# Altium schematic symbol library NinjaSCH.SchLib: 28 symbols
Pins are listed as number, name and electrical type; pins without a type are passive.

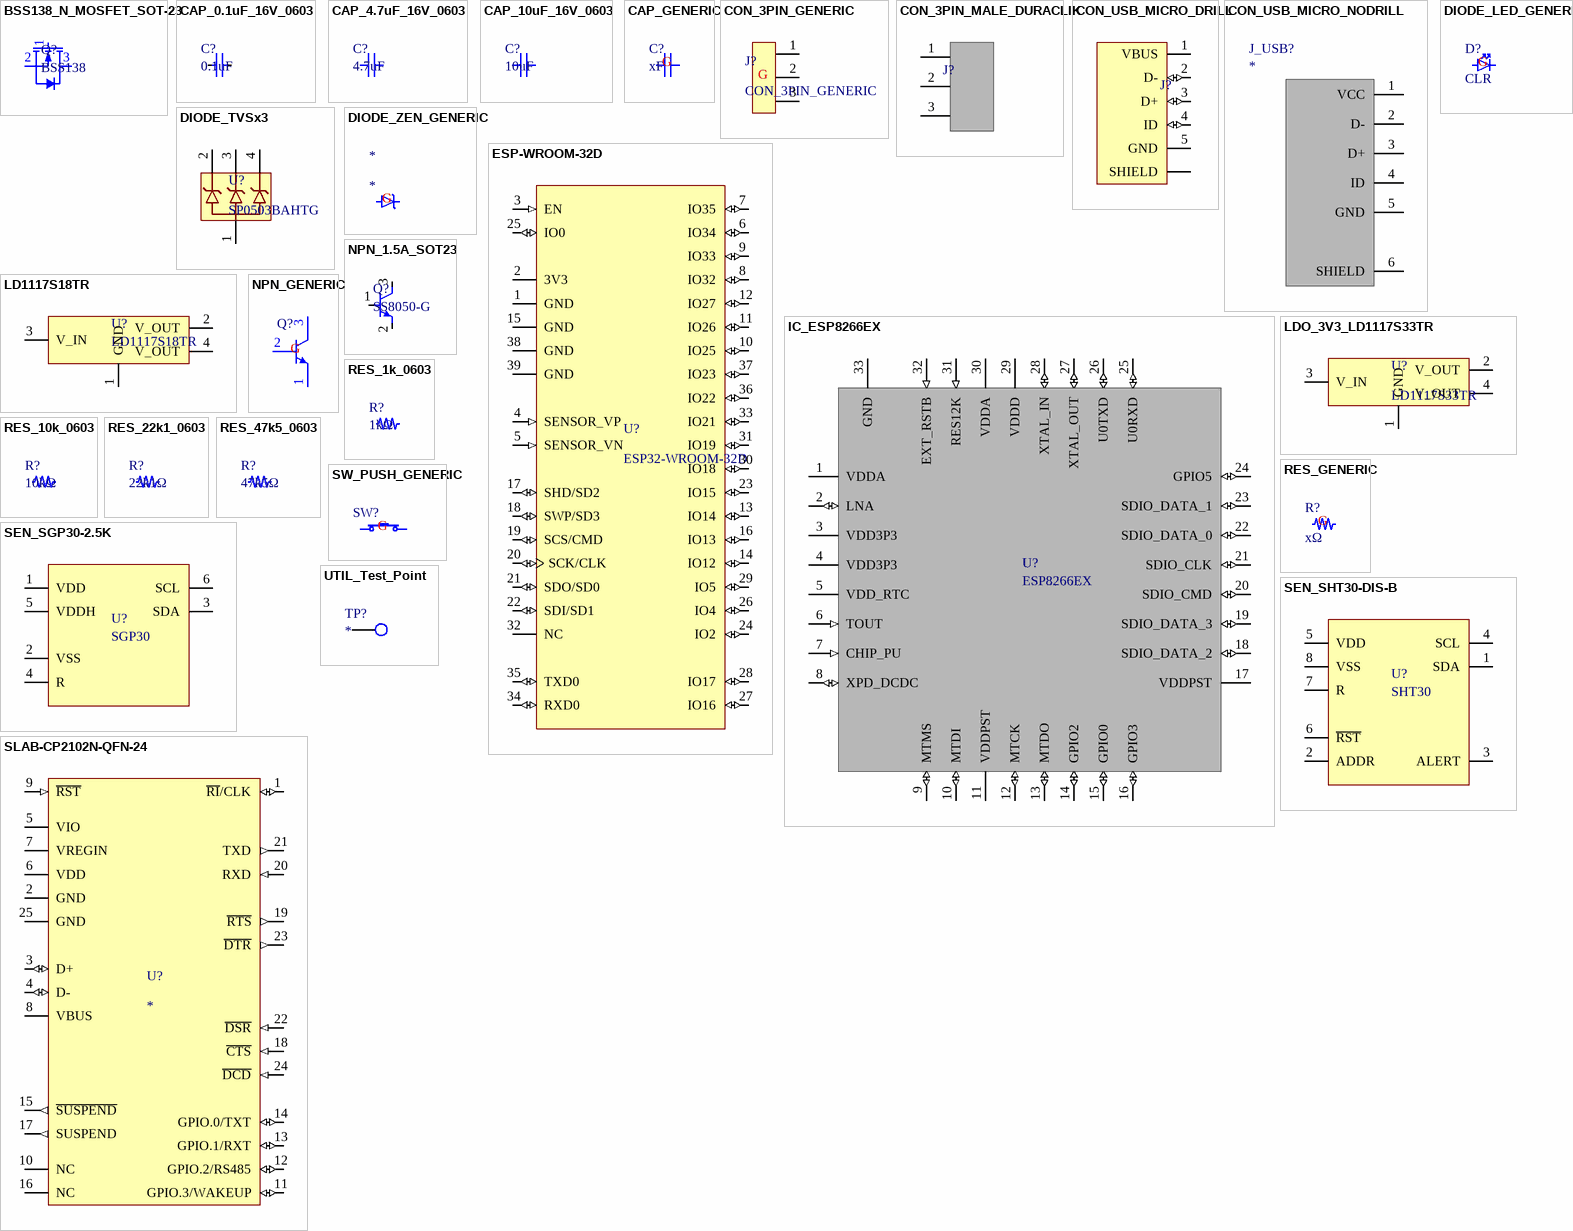
[diagram p0: symbols BSS138_N_MOSFET_SOT-23 to UTIL_Test_Point]

## BSS138_N_MOSFET_SOT-23
designator Q?, comment BSS138
MOSFET N-CH 50V 220MA SOT-23; Manufacturer: ON Semiconductor / Fairchild; Rds On Max: 3.5R; Input Capacitance: 27pF; Nominal Vgs: 1.3V; Number of Elements: 1; Max Power Dissipation: 360mW; Rise Time: 9ns; Turn-Off Delay Time: 20ns; Turn-On Delay Time: 2.5ns; Element Configuration: Single; Gate to Source Voltage (Vgs): 20V; On-State Resistance: 6R; Supplier 1: Digi-Key; Manufacturer Part Number: BSS138; Stock 1: 1411776; Pricing 1: 1=0.32, 10=0.292, 100=0.1633, 500=0.0875, 1000=0.0595 (USD); Mount: Surface Mount; Case/Package: SOT-23; Number of Pins: 3; Weight: 0.03g; Contact Plating: Matte,Tin; Min Operating Temperature: -55°C; Max Operating Temperature: 150°C; Packaging: Tape and Reel; Package Quantity: 1; Dual Supply Voltage: 50V; Drain to Source Voltage (Vdss): 50V; Continuous Drain Current (ID): 220mA; Drain to Source Breakdown Voltage: 50V; Fall Time: 9ns; Drain to Source Resistance: 3.5R; Power Dissipation: 360mW; Threshold Voltage: 1.3V; Termination: SMD/SMT; Voltage Rating (DC): 50V; Current Rating: 220mA; Length: 2.92mm; Height: 0.93mm; Width: 1.3mm; Radiation Hardening: No; REACH SVHC: No SVHC; Lead Free: Lead Free; Supplier Part Number 1: BSS138CT-ND
footprint SOT-23 (SOT23, 3-Leads, Body 3.12x1.5mm, Pitch 0.95mm)
pins: 1 G, 2 S, 3 D

## CAP_0.1uF_16V_0603
designator C?, comment 0.1uF
CAP CER 0.1UF 16V X7R 0603; Manufacturer: Murata; Manufacturer Part Number: GCM188R71C104KA37D; Tolerance: 10%; Capacitance: 100nF; Supplier 1: Digi-Key; Stock 1: 40000; Pricing 1: 1=0.1, 10=0.076, 100=0.0341, 500=0.0243, 1000=0.0191 (USD); Mount: Surface Mount; Case/Package: 0603; Case Code (Metric): 1608; Case Code (Imperial): 0603; Min Operating Temperature: -55°C; Max Operating Temperature: 125°C; Packaging: Tape and Reel; Package Quantity: 4000; Voltage Rating: 16V; Voltage Rating (DC): 16V; Dielectric: X7R; Termination: SMD/SMT; Voltage: 16V; Length: 1.6mm; Height: 0.8mm; Width: 0.031inch; Thickness: 0.035inch; Depth: 0.8mm; Ratings: AEC-Q200; Radiation Hardening: No; REACH SVHC: No SVHC; Lead Free: Lead Free; Supplier Part Number 1: 490-4774-1-ND
footprint CAP_0603 (Ceramic)
pins: 1, 2

## CAP_4.7uF_16V_0603
designator C?, comment 4.7uF
Cap Ceramic 4.7uF 16V X5R 10% SMD 0603 85C Paper T/R; Manufacturer: Samsung; Manufacturer Part Number: CL10A475KO8NNNC; Supplier 1: Digi-Key; Stock 1: 40000; Pricing 1: 1=0.3, 10=0.203, 100=0.1148, 500=0.081, 1000=0.0709 (USD); Mount: Surface Mount; Case/Package: 0603; Case Code (Metric): 1608; Case Code (Imperial): 0603; Material: Ceramic; Contact Plating: Tin; Min Operating Temperature: -55°C; Max Operating Temperature: 85°C; Tolerance: 10%; Packaging: Tape and Reel; Package Quantity: 1; Capacitance: 4.7uF; Voltage Rating: 16V; Dielectric: X5R; Voltage: 16V; Length: 1.6mm; Height: 0.8mm; Width: 0.031inch; Thickness: 0.035inch; Depth: 0.8mm; Radiation Hardening: No; Supplier Part Number 1: 1276-1784-1-ND
footprint CAP_0603 (Ceramic)
pins: 1, 2

## CAP_10uF_16V_0603
designator C?, comment 10uF
10µF ±20% 16V X5R Ceramic Capacitor -55°C ~ 85°C Surface Mount, MLCC 0603 (1608 Metric) 0.063" L x 0.031" W (1.60mm x 0.80mm); Manufacturer: Murata; Manufacturer Part Number: GRM188R61C106MA73D; Supplier 1: Digi-Key; Stock 1: 0; Pricing 1: 1=0.45, 10=0.311, 100=0.1867, 500=0.14, 1000=0.1183 (USD); Mount: Surface Mount; Case/Package: 0603; Case Code (Metric): 1608; Case Code (Imperial): 0603; Min Operating Temperature: -55°C; Max Operating Temperature: 85°C; Package Quantity: 4000; Packaging: Tape and Reel; Capacitance: 10uF; Voltage Rating: 16V; Tolerance: 20%; Dielectric: X5R; Voltage: 16V; Voltage Rating (DC): 16V; Length: 1.6mm; Height: 0.8mm; Width: 0.031inch; Thickness: 0.031inch; Depth: 0.8mm; REACH SVHC: No SVHC; Lead Free: Lead Free
footprint CAP_0603 (Ceramic)
pins: 1, 2

## CAP_GENERIC
designator C?, comment xF
footprint GENERIC_0603_CERAMIC_CAP
pins: 1, 2
text: G

## CON_3PIN_GENERIC
designator J?
pins: 1, 2, 3
text: G

## CON_3PIN_MALE_DURACLIK
designator J?, comment 5023520301  (value not drawn)
Molex DuraClik 3POS SMD Black; Number of Positions: 3; Connector Type: Male Pin; Pitch: 0.079inch; Supplier 1: Digi-Key; Manufacturer: Molex; Manufacturer Part Number: 5023520301; Stock 1: 0; Mount: Surface Mount; Number of Pins: 3; Colour: Black; Contact Plating: Tin; Packaging: Tape and Reel; Number of Rows: 1; Termination: Solder; Fastening Type: Latch; Number of Circuits: 3; Orientation: Right Angle; Supplier Part Number 1: 5023520301-ND
footprint 3pin duraclick (3pin molex duraclick system, black)
pins: 1 (power), 2 (power), 3 (power)

## CON_USB_MICRO_DRILL
designator J?, comment UJ2-MIBH2-4-SMT-TR  (value not drawn)
UJ2-MIBH2-4-SMT-TR MICRO B USB JACK; Manufacturer: CUI; Supplier 1: Digi-Key; Manufacturer Part Number: UJ2-MIBH2-4-SMT-TR; Stock 1: 5971; Pricing 1: 1=1.02, 10=0.898, 25=0.8448, 50=0.8096, 100=0.7744, 250=0.704, 500=0.6336 (USD); Number of Pins: 5; Supplier Part Number 1: 102-4007-1-ND
footprint CON_USB_MICRO_DRILL (UJ2-MIBH2-4-SMT)
pins: 1 VBUS (power), 2 D- (io), 3 D+ (io), 4 ID (io), 5 GND (power), SH SHIELD

## CON_USB_MICRO_NODRILL
designator J_USB?
Conn USB 2.0 Type B RCP 5 POS 0.65mm Solder RA SMD 5 Terminal 1 Port T/R; Manufacturer: TE Connectivity; Manufacturer Part Number: 2174507-2; Plating: Nickel,Tin; Connector Type: Receptacle; Number of Contacts: 5; Number of Ports: 1; Contact Current Rating: 1.8A; Circuit Application: Power; Connector System: Cable-to-Board; Pitch: 0.025inch; Supplier 1: Digi-Key; Stock 1: 879; Pricing 1: 1=2.83, 10=2.712, 25=2.4864, 50=2.3732, 100=2.2602, 250=1.97772, 500=1.9212 (USD); Mount: Surface Mount,Horizontal; Number of Terminals: 5; Housing Colour: Black; Contact Plating: Gold; Contact Material: Copper Alloy; Housing Material: Thermoplastic; Min Operating Temperature: -30°C; Max Operating Temperature: 85°C; Package Quantity: 1000; Packaging: Tape and Reel; Gender: Receptacle; Termination: SMD/SMT; Orientation: Right Angle; Number of Positions: 5; Length: 7.8mm; ELV: Compliant; ComponentLink1URL: https://datasheet.ciiva.com/29660/jpn-cd-2174507-a-29660241.pdf; ComponentLink1Description: https://datasheet.ciiva.com/29660/jpn-cd-2174507-a-29660241.pdf
footprint 2174507-2
pins: 1 VCC, 2 D-, 3 D+, 4 ID, 5 GND, 6 SHIELD

## DIODE_LED_GENERIC
designator D?, comment CLR
pins: 1, 2
text: G

## DIODE_TVSx3
designator U?, comment SP0503BAHTG
SP0503BAHTG TVS DIODE 5.5VWM 8.5VC SOT143; Manufacturer: Littelfuse; Operating Supply Voltage: 5.5V; Element Configuration: Common Anode; Direction: Unidirectional; Capacitance: 30pF; Number of Channels: 3; Clamping Voltage: 8.5V; Power Line Protection: No; Polarity: Unidirectional,Bidirectional; Max Power Dissipation: 225mW; ESD Protection: Yes; Max Reverse Leakage Current: 100nA; Voltage Rating (DC): 5V; Diode Type: Avalanche; Supplier 1: Digi-Key; Manufacturer Part Number: SP0503BAHTG; Stock 1: 123231; Pricing 1: 1=0.92, 10=0.806, 25=0.714, 100=0.622, 250=0.5414, 500=0.4607, 1000=0.3686 (USD); Mount: Surface Mount; Case/Package: SOT-143; Number of Pins: 4; Min Operating Temperature: -40°C; Max Operating Temperature: 85°C; Packaging: Tape and Reel; Number of Unidirectional Channels: 3; Reverse Standoff Voltage: 5.5V; Breakdown Voltage: 5.5V; Termination: SMD/SMT; Working Voltage: 5.5V; Peak Pulse Power: 225mW; Leakage Current: 100nA; Number of Elements: 3; Power Dissipation: 225mW; Composition: Zener; Length: 3.04mm; Height: 1.05mm; Width: 1.4mm; Depth: 1.4mm; Radiation Hardening: No; REACH SVHC: No SVHC; Lead Free: Lead Free; ComponentLink1URL: https://datasheet.ciiva.com/15143/getdatasheetpartid-116020-15143550.pdf; ComponentLink1Description: https://datasheet.ciiva.com/15143/getdatasheetpartid-116020-15143550.pdf; ComponentLink2URL: https://datasheet.ciiva.com/332/sp05xxba-332550.pdf; ComponentLink2Description: https://datasheet.ciiva.com/332/sp05xxba-332550.pdf; ComponentLink3URL: https://datasheet.ciiva.com/8062/littefuse-spa-sp050x-8062422.pdf; ComponentLink3Description: https://datasheet.ciiva.com/8062/littefuse-spa-sp050x-8062422.pdf; ComponentLink4URL: https://datasheet.ciiva.com/22697/1911798-22697942.pdf; ComponentLink4Description: https://datasheet.ciiva.com/22697/1911798-22697942.pdf; ComponentLink5URL: https://datasheet.ciiva.com/332/sp05xxba-332551.pdf; ComponentLink5Description: https://datasheet.ciiva.com/332/sp05xxba-332551.pdf; ComponentLink6URL: https://datasheet.ciiva.com/16449/sp05xxba-16449463.pdf; ComponentLink6Description: https://datasheet.ciiva.com/16449/sp05xxba-16449463.pdf; ComponentLink7URL: https://datasheet.ciiva.com/332/sp05xxba-332552.pdf; ComponentLink7Description: https://datasheet.ciiva.com/332/sp05xxba-332552.pdf; ComponentLink8URL: https://datasheet.ciiva.com/4509/sp05x-leadfree-4509162.pdf; ComponentLink8Description: https://datasheet.ciiva.com/4509/sp05x-leadfree-4509162.pdf; ComponentLink9URL: https://datasheet.ciiva.com/7650/526672-7650894.pdf; ComponentLink9Description: https://datasheet.ciiva.com/7650/526672-7650894.pdf; Supplier Part Number 1: F2715CT-ND
footprint SOT-143
pins: 1, 2, 3, 4

## DIODE_ZEN_GENERIC
designator *
pins: 1, 1
text: G

## ESP-WROOM-32D
designator U?, comment ESP32-WROOM-32D
Manufacturer: Espressif Systems; Supplier 1: Digi-Key; Manufacturer Part Number: ESP32-WROOM-32D; Stock 1: 0; Supplier Part Number 1: 1904-1023-1-ND
footprint ESP_WROOM_32D (ESP32 SoM)
pins: 1 GND (power) "Ground", 2 3V3 (power) "Power supply.", 3 EN (in) "Chip-enable signal. Active high.", 4 SENSOR_VP (in) "GPIO36, SENSOR_VP, ADC_H, ADC1_CH0, RTC_GPIO0", 5 SENSOR_VN (in) "GPIO39, SENSOR_VN, ADC1_CH3, ADC_H, RTC_GPIO3", 6 IO34 (io) "GPIO34, ADC1_CH6, RTC_GPIO4", 7 IO35 (io) "GPIO35, ADC1_CH7, RTC_GPIO5", 8 IO32 (io) "GPIO32, XTAL_32K_P (32.768 kHz crystal oscillator input), ADC1_CH4, TOUCH9, RTC_GPIO9", 9 IO33 (io) "GPIO33, XTAL_32K_N (32.768 kHz crystal oscillator output), ADC1_CH5, TOUCH8, RTC_GPIO8", 10 IO25 (io) "GPIO25, DAC_1, ADC2_CH8, RTC_GPIO6, EMAC_RXD0", 11 IO26 (io) "GPIO26, DAC_2, ADC2_CH9, RTC_GPIO7, EMAC_RXD1", 12 IO27 (io) "GPIO27, ADC2_CH7, TOUCH7, RTC_GPIO17, EMAC_RX_DV", 13 IO14 (io) "GPIO14, ADC2_CH6, TOUCH6, RTC_GPIO16, MTMS, HSPICLK, HS2_CLK, SD_CLK, EMAC_TXD2", 14 IO12 (io) "GPIO12, ADC2_CH5, TOUCH5, RTC_GPIO15, MTDI, HSPIQ, HS2_DATA2, SD_DATA2, EMAC_TXD3", 15 GND (power) "Ground", 16 IO13 (io) "GPIO13, ADC2_CH4, TOUCH4, RTC_GPIO14, MTCK, HSPID, HS2_DATA3, SD_DATA3, EMAC_RX_ER", 17 SHD/SD2 (io) "GPIO9, SD_DATA2, SPIHD, HS1_DATA2, U1RXD", 18 SWP/SD3 (io) "GPIO10, SD_DATA3, SPIWP, HS1_DATA3, U1TXD", 19 SCS/CMD (io) "GPIO11, SD_CMD, SPICS0, HS1_CMD, U1RTS", 20 SCK/CLK (io) "GPIO6, SD_CLK, SPICLK, HS1_CLK, U1CTS", 21 SDO/SD0 (io) "GPIO7, SD_DATA0, SPIQ, HS1_DATA0, U2RTS", 22 SDI/SD1 (io) "GPIO8, SD_DATA1, SPID, HS1_DATA1, U2CTS", 23 IO15 (io) "GPIO15, ADC2_CH3, TOUCH3, MTDO, HSPICS0, RTC_GPIO13, HS2_CMD, SD_CMD, EMAC_RXD3", 24 IO2 (io) "GPIO2, ADC2_CH2, TOUCH2, RTC_GPIO12, HSPIWP, HS2_DATA0, SD_DATA0", 25 IO0 (io) "GPIO0, ADC2_CH1, TOUCH1, RTC_GPIO11, CLK_OUT1, EMAC_TX_CLK", 26 IO4 (io) "GPIO4, ADC2_CH0, TOUCH0, RTC_GPIO10, HSPIHD, HS2_DATA1, SD_DATA1, EMAC_TX_ER", 27 IO16 (io) "GPIO16, HS1_DATA4, U2RXD, EMAC_CLK_OUT", 28 IO17 (io) "GPIO17, HS1_DATA5, U2TXD, EMAC_CLK_OUT_180", 29 IO5 (io) "GPIO5, VSPICS0, HS1_DATA6, EMAC_RX_CLK", 30 IO18 (io) "GPIO18, VSPICLK, HS1_DATA7", 31 IO19 (io) "GPIO19, VSPIQ, U0CTS, EMAC_TXD0", 32 NC "Not connected", 33 IO21 (io) "GPIO21, VSPIHD, EMAC_TX_EN", 34 RXD0 (io) "GPIO3, U0RXD, CLK_OUT2", 35 TXD0 (io) "GPIO1, U0TXD, CLK_OUT3, EMAC_RXD2", 36 IO22 (io) "GPIO22, VSPIWP, U0RTS, EMAC_TXD1", 37 IO23 (io) "GPIO23, VSPID, HS1_STROBE", 38 GND (power) "Ground", 39 GND (power)

## IC_ESP8266EX
designator U?, comment ESP8266EX
ESP8266EX, QFN32-PIN, 5x5; Manufacturer: Espressif Systems; RF Family/Standard: WiFi; Protocol: 802.11b/g/n; Frequency: 2.4GHz; Data Rate (Max): 54Mbps; Power - Output: 20dBm; Sensitivity: -91dBm; Serial Interfaces: I²C, I²S, SPI, UART; Voltage - Supply: 2.5 V ~ 3.6 V; Current - Receiving: 50mA ~ 56mA; Current - Transmitting: 120mA ~ 170mA; Supplier 1: Digi-Key; RoHS: RoHS Compliant; Category: RF/IF and RFID; Stock 1: 3363; Pricing 1: 1=2.5, 10=2.231, 25=2.008, 100=1.8296, 250=1.65116, 500=1.48156 (EUR); Packaging: Cut Tape (CT); Part Status: Active; Package / Case: 32-VFQFN Exposed Pad; ComponentLink1URL: https://espressif.com/sites/default/files/documentation/0a-esp8266ex_datasheet_en.pdf; ComponentLink1Description: https://espressif.com/sites/default/files/documentation/0a-esp8266ex_datasheet_en.pdf; Supplier Part Number 1: 1904-1001-1-ND; Manufacturer Part Number: ESP8266EX
footprint QFN32 (QFN, 32-Leads, Body 5,00x5,00mm, Pitch 0,50mm, Thermal Pad 3,70x3,70mm, IPC Medium Density)
pins: 1 VDDA (power) "Analog Power 2.5V ~ 3.6V", 2 LNA (io) "RF antenna interface", 3 VDD3P3 (power) "Amplifier Power 2.5V ~ 3.6V", 4 VDD3P3 (power) "Amplifier Power 2.5V ~ 3.6V", 5 VDD_RTC (power) "NC (1.1V)", 6 TOUT (in) "ADC pin", 7 CHIP_PU (in) "Chip enable. High=ON, LOW=OFF", 8 XPD_DCDC (io) "GPIO16; Deep-sleep wakeup (need to be connected to EXT_RSTB)", 9 MTMS (io) "GPIO14; HSPI_CLK", 10 MTDI (io) "GPIO12; HSPI_MISO", 11 VDDPST (power) "Digital/IO Power Supply (1.8V ~ 3.6V)", 12 MTCK (io) "GPIO13; HSPI_MOSI; UART0_CTS", 13 MTDO (io) "GPIO15; HSPI_CS; UART0_RTS", 14 GPIO2 (io) "GPIO2; UART Tx during flash programming", 15 GPIO0 (io) "GPIO0; SPI_CS2", 16 GPIO3 (io) "GPIO4", 17 VDDPST (power) "Digital/IO Power Supply (1.8V ~ 3.6V)", 18 SDIO_DATA_2 (io) "GPIO9; SPIHD; HSPIHD; Connect to SD_D2 (Series R: 200Ω)", 19 SDIO_DATA_3 (io) "GPIO10; SPIWP; HSPIWP; Connect to SD_D3 (Series R: 200Ω)", 20 SDIO_CMD (io) "GPIO11; SPI_CS0; Connect to SD_CMD (Series R: 200Ω)", 21 SDIO_CLK (io) "GPIO6; SPI_CLK; Connect to SD_CLK (Series R: 200Ω)", 22 SDIO_DATA_0 (io) "GPIO7; SPI_MISO; Connect to SD_D0 (Series R: 200Ω)", 23 SDIO_DATA_1 (io) "GPIO8; SPI_MOSI; Connect to SD_D1 (Series R: 200Ω)", 24 GPIO5 (io), 25 U0RXD (io) "GPIO3; UART Rx during flash programming", 26 U0TXD (io) "GPIO1; SPI_CS1; UART Tx during flash programming", 27 XTAL_OUT (io) "Connect to crystal oscillator output, can be used to provide BT clock input", 28 XTAL_IN (io) "Connect to crystal oscillator input", 29 VDDD (power) "Analog Power 2.5V ~3.6V", 30 VDDA (power) "Analog Power 2.5V ~3.6V", 31 RES12K (in) "SAerial connection with a 12kΩ resistor and connect to the ground", 32 EXT_RSTB (in) "External reset signal, active low", 33 GND (power) "Ground"

## LD1117S18TR
designator U?
LDO_1V8_LD1117S18TR_SOT-223; Manufacturer: STMicroelectronics; Max Power Dissipation: 12W; Number of Outputs: 1; Max Input Voltage: 15V; Max Output Current: 1.3A; Output Voltage: 1.8V; Output Current: 950mA; Dropout Voltage: 1.1V; Input Bias Current: 5mA; Quiescent Current: 10mA; Polarity: Positive; Accuracy: 1%; Output Type: Fixed; Supplier 1: Digi-Key; Manufacturer Part Number: LD1117S18TR; Stock 1: 6805; Pricing 1: 1=0.6, 10=0.51, 100=0.3807, 500=0.2991, 1000=0.2311 (USD); Mount: Surface Mount; Case/Package: SOT-223; Number of Pins: 4; Min Operating Temperature: 0°C; Max Operating Temperature: 125°C; Packaging: Tape and Reel; Package Quantity: 1; Number of Regulators: 1; Power Dissipation: 12W; Min Output Voltage: 1.8V; Nominal Output Voltage: 1.8V; Output Voltage Accuracy: 1%; Length: 6.5mm; Height: 1.8mm; Width: 3.5mm; Radiation Hardening: No; REACH SVHC: No SVHC; Lead Free: Lead Free; Supplier Part Number 1: 497-7308-1-ND
footprint SOT-223
pins: 1 GND (power), 2 V_OUT (power), 3 V_IN (power), 4 V_OUT (power)

## LDO_3V3_LD1117S33TR
designator U?, comment LD1117S33TR
STMICROELECTRONICS         LD1117S33TR            Fixed LDO Voltage Regulator, 4.75V to 15V, 1.1V Dropout, 3.3Vout, 800mAout, SOT-223-3; Number of Outputs: 1; Max Output Current: 1.3A; Output Voltage: 3.3V; Max Power Dissipation: 12W; Output Current: 800mA; Input Bias Current: 5mA; Quiescent Current: 10mA; Polarity: Positive; Accuracy: 1%; Supplier 1: Digi-Key; Manufacturer: STMicroelectronics; Manufacturer Part Number: LD1117S33TR; Stock 1: 10; Pricing 1: 1=0.42, 10=0.361, 100=0.2697, 500=0.2119, 1000=0.1637 (USD); Mount: Surface Mount; Case/Package: SOT-223; Number of Pins: 4; Weight: 0.01lb; Contact Plating: Tin,Matte; Min Operating Temperature: 0°C; Max Operating Temperature: 125°C; Packaging: Tape and Reel; Dropout Voltage: 1.1V; Max Input Voltage: 15V; Min Input Voltage: 4.75V; Max Supply Voltage: 15V; Min Supply Voltage: 4.75V; Package Quantity: 1; Nominal Output Voltage: 3.3V; Number of Regulators: 1; Power Dissipation: 12W; Min Output Voltage: 3.3V; Max Output Voltage: 3.3V; Termination: SMD/SMT; Voltage: 3.3V; Output Voltage Accuracy: 1%; Output Type: Fixed; Length: 6.5mm; Height: 1.8mm; Width: 3.5mm; Radiation Hardening: No; REACH SVHC: No SVHC; Lead Free: Lead Free; ComponentLink1URL: https://datasheet.ciiva.com/19478/1390240-19478097.pdf; ComponentLink1Description: https://datasheet.ciiva.com/19478/1390240-19478097.pdf; ComponentLink2URL: https://datasheet.ciiva.com/1511/1776449-1511573.pdf; ComponentLink2Description: https://datasheet.ciiva.com/1511/1776449-1511573.pdf; ComponentLink3URL: https://datasheet.ciiva.com/2041/cd00000544-2041941.pdf; ComponentLink3Description: https://datasheet.ciiva.com/2041/cd00000544-2041941.pdf; ComponentLink4URL: https://datasheet.ciiva.com/2041/cd00000544-2041942.pdf; ComponentLink4Description: https://datasheet.ciiva.com/2041/cd00000544-2041942.pdf; ComponentLink5URL: https://datasheet.ciiva.com/2041/cd00000544-2041943.pdf; ComponentLink5Description: https://datasheet.ciiva.com/2041/cd00000544-2041943.pdf; ComponentLink6URL: https://datasheet.ciiva.com/16396/cd00000544-16396459.pdf; ComponentLink6Description: https://datasheet.ciiva.com/16396/cd00000544-16396459.pdf; ComponentLink7URL: https://datasheet.ciiva.com/7992/1776449-7992621.pdf; ComponentLink7Description: https://datasheet.ciiva.com/7992/1776449-7992621.pdf; ComponentLink8URL: https://datasheet.ciiva.com/28652/1776449-28652462.pdf; ComponentLink8Description: https://datasheet.ciiva.com/28652/1776449-28652462.pdf; Supplier Part Number 1: 497-1242-1-ND
footprint SOT-223
pins: 1 GND (power), 2 V_OUT (power), 3 V_IN (power), 4 V_OUT (power)

## NPN_1.5A_SOT23
designator Q?, comment SS8050-G
S8050-G NPN1.5A 40V SOT-23 R; Manufacturer: Comchip; Max Collector Current: 1.5A; Collector Emitter Voltage (VCEO): 400mV; Max Power Dissipation: 300mW; Transition Frequency: 100MHz; Collector Emitter Breakdown Voltage: 25V; Supplier 1: Digi-Key; Manufacturer Part Number: SS8050-G; Stock 1: 0; Pricing 1: 1=0.24, 10=0.219, 25=0.1576, 100=0.1227, 250=0.0771, 500=0.0657, 1000=0.0447 (USD); Mount: Surface Mount; Case/Package: TO-236-3; Packaging: Tape and Reel; Max Breakdown Voltage: 25V; Supplier Part Number 1: 641-1790-1-ND
footprint SOT-23
pins: 1 B, 2 E, 3 C

## NPN_GENERIC
designator Q?
pins: 1 E, 2 B, 3 C
text: G

## RES_1k_0603
designator R?, comment 1kΩ
RMCF Series 1 kOhms ±5% 0603 ±200 ppm/°C SMT Thick Film Chip Resistor; Manufacturer: Stackpole Electronics; Manufacturer Part Number: RMCF0603JJ1K00; Resistance: 1kR; Power Rating: 100mW; Supplier 1: Digi-Key; Stock 1: 6000; Pricing 1: 1=0.1, 10=0.016, 100=0.0064, 1000=0.0029, 2500=0.0025, 5000=0.0021 (USD); Mount: Surface Mount; Case/Package: 0603; Case Code (Metric): 1608; Case Code (Imperial): 0603; Min Operating Temperature: -55°C; Max Operating Temperature: 155°C; Tolerance: 5%; Packaging: Tape and Reel; Composition: Thick Film; Number of Terminations: 2; Max Power Dissipation: 100mW; Temperature Coefficient: 200ppm/°C; Features: Automotive AEC-Q200; Length: 0.061inch; Height: 0.022inch; Width: 0.031inch; Lead Free: Lead Free; Supplier Part Number 1: RMCF0603JJ1K00CT-ND
footprint RES_0603_HD (Chip Resistor, Body 1.6x0.8mm, IPC High Density)
pins: 1, 2

## RES_10k_0603
designator R?, comment 10kΩ
Res Thin Film 0603 10K Ohm 1% 1/8W 100ppm/C Molded SMD SMD Paper T/R; Manufacturer: Stackpole Electronics; Manufacturer Part Number: RNCP0603FTD10K0; Resistance: 10kR; Max Power Dissipation: 125mW; Temperature Coefficient: 100ppm/°C; Supplier 1: Digi-Key; Stock 1: 72973; Pricing 1: 1=0.1, 10=0.067, 100=0.0273, 1000=0.0122, 2500=0.0106 (USD); Mount: Surface Mount; Case/Package: 0603; Case Code (Metric): 1608; Case Code (Imperial): 0603; Contact Plating: Matte,Tin; Min Operating Temperature: -55°C; Max Operating Temperature: 155°C; Packaging: Tape and Reel; Tolerance: 1%; Composition: Thin Film; Number of Terminations: 2; Features: Anti-Sulfur,Moisture Resistant; Length: 0.059inch; Height: 0.02inch; Width: 0.031inch; Radiation Hardening: No; Lead Free: Lead Free; Supplier Part Number 1: RNCP0603FTD10K0CT-ND
footprint RES_0603_HD (Chip Resistor, Body 1.6x0.8mm, IPC High Density)
pins: 1, 2

## RES_22k1_0603
designator R?, comment 22k1Ω
RES SMD 22.1K OHM 1% 1/8W 0603; Manufacturer: Stackpole Electronics; Manufacturer Part Number: RNCP0603FTD22K1; Resistance: 22.1kR; Max Power Dissipation: 125mW; Temperature Coefficient: 100ppm/°C; Supplier 1: Digi-Key; Stock 1: 1191; Pricing 1: 1=0.1, 10=0.067, 100=0.0273, 1000=0.0122, 2500=0.0106 (USD); Mount: Surface Mount; Case/Package: 0603; Case Code (Metric): 1608; Case Code (Imperial): 0603; Min Operating Temperature: -55°C; Max Operating Temperature: 155°C; Tolerance: 1%; Packaging: Tape and Reel; Composition: Thin Film; Number of Terminations: 2; Features: Anti-Sulfur,Moisture Resistant; Length: 0.059inch; Height: 0.02inch; Width: 0.031inch; Supplier Part Number 1: RNCP0603FTD22K1CT-ND
footprint RES_0603_HD (Chip Resistor, Body 1.6x0.8mm, IPC High Density)
pins: 1, 2

## RES_47k5_0603
designator R?, comment 47k5Ω
Res Thick Film 0603 47.5K Ohm 1% 1/10W 100ppm/C Molded SMD SMD Paper T/R; Manufacturer: Stackpole Electronics; Manufacturer Part Number: RMCF0603FG47K5; Resistance: 47.5kR; Max Power Dissipation: 100mW; Temperature Coefficient: 100ppm/°C; Supplier 1: Digi-Key; Stock 1: 5202; Pricing 1: 1=0.1, 10=0.018, 100=0.0071, 1000=0.0032, 2500=0.0028, 5000=0.0023 (USD); Mount: Surface Mount; Case/Package: 0603; Case Code (Metric): 1608; Case Code (Imperial): 0603; Contact Plating: Matte,Tin; Min Operating Temperature: -55°C; Max Operating Temperature: 155°C; Packaging: Tape and Reel; Tolerance: 1%; Package Quantity: 1; Composition: Thick Film; Number of Terminations: 2; Features: Automotive AEC-Q200; Length: 0.061inch; Height: 0.022inch; Width: 0.031inch; Radiation Hardening: No; Supplier Part Number 1: RMCF0603FG47K5CT-ND
footprint RES_0603_HD (Chip Resistor, Body 1.6x0.8mm, IPC High Density)
pins: 1, 2

## RES_GENERIC
designator R?, comment xΩ
pins: 1, 2
text: G

## SEN_SGP30-2.5K
designator U?, comment SGP30
Air quality sensor; Manufacturer: Sensirion; Manufacturer Part Number: 1-101646-01; Supplier 1: Digi-Key; Stock 1: 2448; Pricing 1: 1=13.7, 5=12.016, 10=10.814, 25=9.6128, 50=8.8916, 100=7.6901, 500=7.2095, 1000=6.7288 (USD); Supplier Part Number 1: 1649-1084-1-ND
pins: 1 VDD "1.62-1.98V, 1.8V nominal", 2 VSS "Ground", 3 SDA "Serial data", 4 R "No function. Connect to ground.", 5 VDDH "Supply voltage hot plate. 1.62-1.98V, 1.8V nominal", 6 SCL "Supply voltage hot plate. 1.62-1.98V, 1.8V nominal"

## SEN_SHT30-DIS-B
designator U?, comment SHT30
Manufacturer: Sensirion; Manufacturer Part Number: SHT30-DIS-B; Response Time: 8s; Min Supply Voltage: 2.4V; Max Supply Voltage: 5.5V; Capacitance: 100nF; Accuracy: 3%; Sensor Type: Temperature; Output Type: I2C; Supplier 1: Digi-Key; Stock 1: 5931; Pricing 1: 1=3.96, 5=3.496, 10=3.089, 25=2.506, 50=2.2144, 100=2.1562, 500=1.8065, 1000=1.69 (USD); Mount: Surface Mount; Min Operating Temperature: -40°C; Max Operating Temperature: 125°C; REACH SVHC: Unknown; Lead Free: Lead Free; Supplier Part Number 1: 1649-1009-1-ND
footprint SHT3x_8-VFDFN_Exposed_Pad (Sensirion SHT3x 8-DFN)
pins: 1 SDA, 2 ADDR, 3 ALERT "Alarm interrupt output, leave floating if unused", 4 SCL "Serial clock", 5 VDD "2.15-5.5V, nominal 3v3", 6 ~{RST} "Active low reset. Float if unused or pullup with >2kOhm.", 7 R "No function, connect to VSS.", 8 VSS "Ground"

## SLAB-CP2102N-QFN-24
designator U?
footprint SLAB-QFN-24-2550x2550TP_A_V (QFN, 6-Leads, Body 4x4mm, Pitch 0.5mm, Thermal Pad 2.55x2.55mm)
pins: 1 ~{RI}/CLK (io), 2 GND (power) "Ground", 3 D+ (io) "USB Data Positive", 4 D- (io) "USB Data Negative", 5 VIO (power) "I/O Supply Power Input", 6 VDD (power) "Supply Power Input / 5V Regulator Output", 7 VREGIN (power) "5V Regulator Input", 8 VBUS (power) "Digital Input. VBUS Sense Input. This pin should be connected to the VBUS signal of a USB network. A 5 V signal on this pin indicates a USB network connection.", 9 ~{RST} (in) "Active-low Reset", 10 NC "No Connect (leave this pin floating).", 11 GPIO.3/WAKEUP (io) "Digital Output. This pin is driven low when the device enters the USB suspend state.", 12 GPIO.2/RS485 (io) "Ground", 13 GPIO.1/RXT (io) "Digital Input. Remote USB wakeup interrupt input.", 14 GPIO.0/TXT (io) "Digital Output. This pin is driven high when the device enters the USB suspend state", 15 ~{SUSPEND} (out) "Digital Output. This pin is driven low when the device enters the USB suspend state.", 16 NC "No Connect (leave this pin floating).", 17 SUSPEND (out) "Digital Output. This pin is driven high when the device enters the USB suspend state.", 18 ~{CTS} (in) "Digital Input. Clear To Send control input (active low).", 19 ~{RTS} (out) "Digital Output. Ready To Send control output (active low).", 20 RXD (in) "Digital Input. Asynchronous data input (UART Receive).", 21 TXD (out) "Digital Output. Asynchronous data output (UART Transmit).", 22 ~{DSR} (in) "Digital Input. Data Set Ready control input (active low).", 23 ~{DTR} (out) "Digital Output. Data Terminal Ready control output (active low).", 24 ~{DCD} (in) "Digital Input. Data Carrier Detect control input (active low).", 25 GND (power) "Ground"

## SW_PUSH_GENERIC
designator SW?
pins: 1 (power), 2 (power)
text: G

## UTIL_Test_Point
designator TP?
Test Point
footprint UTIL_Test_Point_3mm_1mmHole (No-BOM 3mm test point with 1mm hole)
pins: 1 D